# Altium schematic symbol library diodes-inc-pwr-mgmt.SchLib: 25 symbols
Pins are listed as number, name and electrical type; pins without a type are passive.

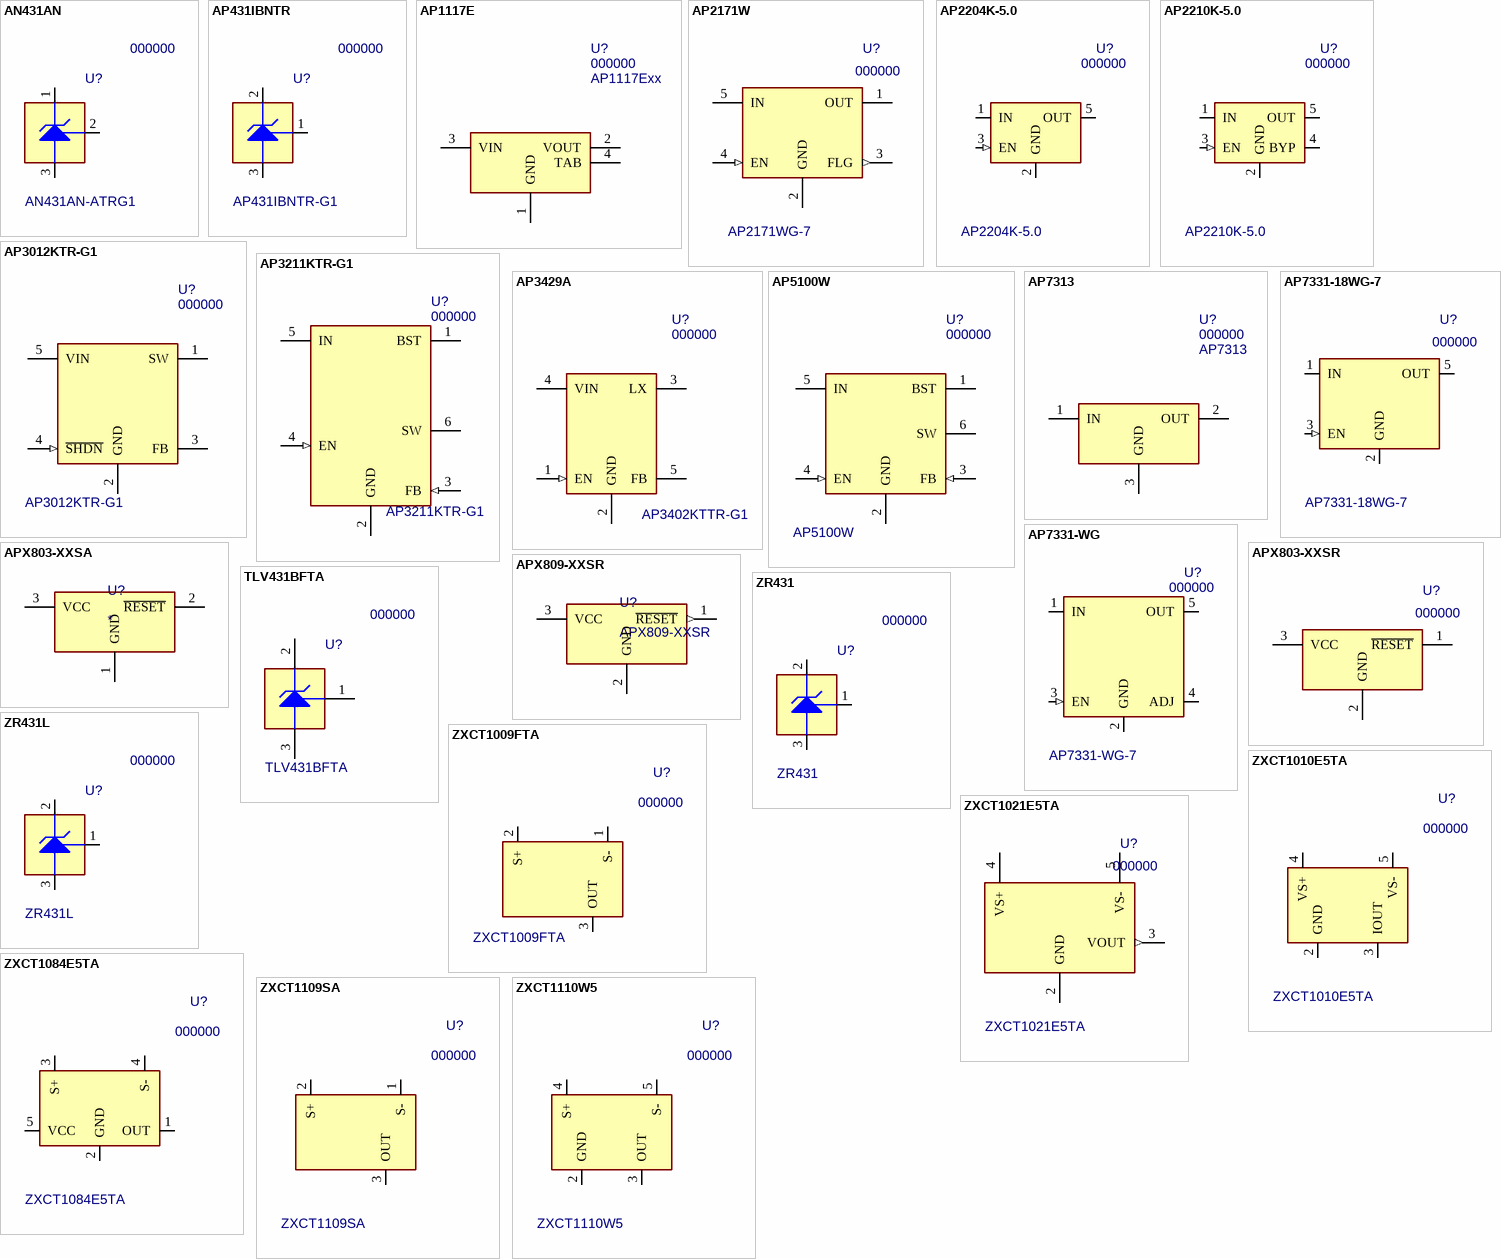
[diagram p0: symbols AN431AN to ZXCT1110W5]

## AN431AN
designator U?, comment 000000  value AN431AN-ATRG1
2.5V Precision Shunt Regulator, 36V, 100mA, 0.5%; MF: Diodes Inc; PN: 000000; Package: SOT23; ExtraInfo: *
footprint SOT-23-M (SOT23, 3-Leads, Body 3.0x2.8mm (max), Pitch 0.95mm, Medium Density)
pins: 1 CATHODE (power), 2 REF, 3 ANODE (power)

## AP431IBNTR
designator U?, comment 000000  value AP431IBNTR-G1
2.5V Precision Shunt Regulator, 36V, 100mA, 1%; MF: Diodes Inc; PN: 000000; Package: SOT23; ExtraInfo: *
footprint SOT-23-M (SOT23, 3-Leads, Body 3.0x2.8mm (max), Pitch 0.95mm, Medium Density)
pins: 1 REF, 2 CATHODE (power), 3 ANODE (power)

## AP1117E
designator U?, comment 000000  value AP1117Exx
1A Low Dropout Positive Regulator; MF: Diodes Inc; PN: 000000; Package: SOT-223; ExtraInfo: *
footprint SOT223-3 (3-Lead Plastic Small Outline Transistor)
pins: 1 GND (power), 2 VOUT (power), 3 VIN (power), 4 TAB (power)

## AP2171W
designator U?, comment 000000  value AP2171WG-7
1A SINGLE CHANNEL CURRENT-LIMITED POWER  SWITCH; MF: Diodes Inc; Package: SOT23-5; PN: 000000; ExtraInfo: *
footprint SOT23-5 (SOT23, 5-Leads, Body 3.0x3.0mm (max), Pitch 0.95mm, IPC High Density)
footprint SOT-25 (5-Lead Plastic Small Outline Transistor - Medium Density)
pins: 1 OUT (power), 2 GND (power), 3 FLG (out), 4 EN (in), 5 IN (power)

## AP2204K-5.0
designator U?, comment 000000  value AP2204K-5.0
LDO 150mA,  5V, 24V Input; MF PN: AP2204K-5.0TRG1; MF: Diodes Inc; Package: SOT23-5; PN: 000000; ExtraInfo: *; Digi-Key PN: AP2204K-5.0TRG1DICT-ND; Price: 0.12359
footprint SOT23-5-M (SOT23, 5-Leads, Body 3.0x3.0mm (max), Pitch 0.95mm, IPC Medium Density)
pins: 1 IN (power), 2 GND (power), 3 EN (in), 5 OUT (power)

## AP2210K-5.0
designator U?, comment 000000  value AP2210K-5.0
LDO 300mA,  5V, 13.2V Input; MF PN: AP2210K-5.0TRG1; MF: Diodes Inc; Package: SOT23-5; PN: 000000; ExtraInfo: *; Digi-Key PN: AP2210K-5.0TRG1DICT-ND; Price: 0.11880
footprint SOT23-5-M (SOT23, 5-Leads, Body 3.0x3.0mm (max), Pitch 0.95mm, IPC Medium Density)
pins: 1 IN (power), 2 GND (power), 3 EN (in), 4 BYP (power), 5 OUT (power)

## AP3012KTR-G1
designator U?, comment 000000  value AP3012KTR-G1
500mA Step-Up DC/DC Cnverter 1.5MHz Switching Frequency; MF: Diodes Inc; PN: 000000; Package: SOT-23-5; ExtraInfo: *
footprint SOT23-5-M (SOT23, 5-Leads, Body 3.0x3.0mm (max), Pitch 0.95mm, IPC Medium Density)
pins: 1 SW (oc), 2 GND (power), 3 FB, 4 ~{SHDN} (in), 5 VIN (power)

## AP3211KTR-G1
designator U?, comment 000000  value AP3211KTR-G1
1.5A Step-Down Converter 1.4MHz Switching  Frequency; MF: Diodes Inc; PN: 000000; Package: SOT-23-6; ExtraInfo: *
footprint SOT23-6-M (SOT23, 6-Leads, Body 3.0x3.0mm (max), Pitch 0.95mm, IPC Medium Density)
pins: 1 BST, 2 GND (power), 3 FB (in), 4 EN (in), 5 IN (power), 6 SW (oc)

## AP3429A
designator U?, comment 000000  value AP3402KTTR-G1
2A Step-Down DC/DC Cnverter 1MHz Switching Frequency; MF: Diodes Inc; PN: 000000; Package: SOT-23-5; ExtraInfo: *; Digi-Key PN: AP3402KTTR-G1DICT-ND; MF PN: AP3402KTTR-G1; Price: 0.12375
footprint SOT23-5-M (SOT23, 5-Leads, Body 3.0x3.0mm (max), Pitch 0.95mm, IPC Medium Density)
pins: 1 EN (in), 2 GND (power), 3 LX (oc), 4 VIN (power), 5 FB

## AP5100W
designator U?, comment 000000  value AP5100W
1.2A Step-Down Converter with 1.4MHz Switching   Frequency; MF: Diodes Inc; PN: 000000; Package: SOT-26; ExtraInfo: *
footprint SOT-26 (6-Lead Plastic Small Outline Transistor)
pins: 1 BST, 2 GND (power), 3 FB (in), 4 EN (in), 5 IN (power), 6 SW (oc)

## AP7313
designator U?, comment 000000  value AP7313
LDO 150mA, Low Quiescent Current, Fast Transient; MF: Diodes Inc; PN: 000000; ExtraInfo: *; Package: *
footprint SOT-23 (SOT23, 3-Leads, Body 3.0x2.8mm (max), Pitch 0.95mm, IPC High Density)
pins: 1 IN (power), 2 OUT (power), 3 GND (power)

## AP7331-18WG-7
designator U?, comment 000000  value AP7331-18WG-7
LDO 300mA,  Low Quiescent Current, Fast Transient; MF: Diodes Inc; Package: SOT23-5; PN: 000000; ExtraInfo: *
footprint SOT23-5 (SOT23, 5-Leads, Body 3.0x3.0mm (max), Pitch 0.95mm, IPC High Density)
footprint SOT-25 (5-Lead Plastic Small Outline Transistor - Medium Density)
pins: 1 IN (power), 2 GND (power), 3 EN (in), 5 OUT (power)

## AP7331-WG
designator U?, comment 000000  value AP7331-WG-7
LDO 300mA,  Low Quiescent Current, Fast Transient; MF: Diodes Inc; Package: SOT23-5; PN: 000000; ExtraInfo: *
footprint SOT23-5 (SOT23, 5-Leads, Body 3.0x3.0mm (max), Pitch 0.95mm, IPC High Density)
footprint SOT-25 (5-Lead Plastic Small Outline Transistor - Medium Density)
pins: 1 IN (power), 2 GND (power), 3 EN (in), 4 ADJ (power), 5 OUT (power)

## APX803-XXSA
designator U?
MICROPROCESSOR RESET CIRCUIT; Value: APX803-XXSA; PN: 000000; MF: Diodes Inc; Package: *; ExtraInfo: *
footprint SOT-23 (SOT23, 3-Leads, Body 3.0x2.8mm (max), Pitch 0.95mm, IPC High Density)
pins: 1 GND (power), 2 ~{RESET} (oc), 3 VCC (power)

## APX803-XXSR
designator U?, comment 000000
MICROPROCESSOR RESET CIRCUIT; Value: APX803-XXSR; MF: Diodes Inc; Package: *; PN: 000000; ExtraInfo: *
footprint SOT-23 (SOT23, 3-Leads, Body 3.0x2.8mm (max), Pitch 0.95mm, IPC High Density)
pins: 1 ~{RESET} (oc), 2 GND (power), 3 VCC (power)

## APX809-XXSR
designator U?
MICROPROCESSOR RESET CIRCUIT; PN: 000000; MF: Diodes Inc; Value: APX809-XXSR; Package: *; ExtraInfo: *
footprint SOT-23 (SOT23, 3-Leads, Body 3.0x2.8mm (max), Pitch 0.95mm, IPC High Density)
pins: 1 ~{RESET} (out), 2 GND (power), 3 VCC (power)

## TLV431BFTA
designator U?, comment 000000  value TLV431BFTA
1.24V SHUNT REGULATOR; MF: Diodes Inc; PN: 000000; Package: SOT23; ExtraInfo: *
footprint SOT-23 (SOT23, 3-Leads, Body 3.0x2.8mm (max), Pitch 0.95mm, IPC High Density)
pins: 1 REF, 2 CATHODE (power), 3 ANODE (power)

## ZR431
designator U?, comment 000000  value ZR431
2.5V Precision Shunt Regulator; MF: Diodes Inc; PN: 000000; Package: SOT23; ExtraInfo: *
footprint SOT-23 (SOT23, 3-Leads, Body 3.0x2.8mm (max), Pitch 0.95mm, IPC High Density)
simulation model ZR431 (Zetex ZR431 Spice Model v1.0 Last revision 31/3/2005)
pins: 1 REF, 2 CATHODE (power), 3 ANODE (power)

## ZR431L
designator U?, comment 000000  value ZR431L
1.24V Precision Shunt Regulator; MF: Diodes Inc; PN: 000000; Package: SOT23; ExtraInfo: *
footprint SOT-23 (SOT23, 3-Leads, Body 3.0x2.8mm (max), Pitch 0.95mm, IPC High Density)
simulation model ZR431L (Zetex ZR431L Spice Model v1.0 Last Revised 21/10/05)
pins: 1 REF, 2 CATHODE (power), 3 ANODE (power)

## ZXCT1009FTA
designator U?, comment 000000  value ZXCT1009FTA
High-side current monitor; MF: Diodes Inc; Package: SOT23; PN: 000000; ExtraInfo: *
footprint SOT-23-M (SOT23, 3-Leads, Body 3.0x2.8mm (max), Pitch 0.95mm, Medium Density)
pins: 1 S-, 2 S+, 3 OUT

## ZXCT1010E5TA
designator U?, comment 000000  value ZXCT1010E5TA
High-side current monitor; MF: Diodes Inc; Package: SOT23-5; PN: 000000; ExtraInfo: *
footprint SOT23-5 (SOT23, 5-Leads, Body 3.0x3.0mm (max), Pitch 0.95mm, IPC High Density)
simulation model ZXCT1010 (TITLE=ZXCT1010 MACROMODEL)
pins: 2 GND (power), 3 IOUT, 4 VS+, 5 VS-

## ZXCT1021E5TA
designator U?, comment 000000  value ZXCT1021E5TA
Low offset high-side current monitor; MF: Diodes Inc; Package: SOT23-5; PN: 000000; ExtraInfo: *
footprint SOT23-5 (SOT23, 5-Leads, Body 3.0x3.0mm (max), Pitch 0.95mm, IPC High Density)
pins: 2 GND (power), 3 VOUT (out), 4 VS+, 5 VS-

## ZXCT1084E5TA
designator U?, comment 000000  value ZXCT1084E5TA
High-side current monitor; MF: Diodes Inc; Package: SOT23-5; PN: 000000; ExtraInfo: *
footprint SOT23-5 (SOT23, 5-Leads, Body 3.0x3.0mm (max), Pitch 0.95mm, IPC High Density)
pins: 1 OUT, 2 GND (power), 3 S+, 4 S-, 5 VCC (power)

## ZXCT1109SA
designator U?, comment 000000  value ZXCT1109SA
High-side current monitor; MF: Diodes Inc; Package: SOT23; PN: 000000; ExtraInfo: *
footprint SOT-23-M (SOT23, 3-Leads, Body 3.0x2.8mm (max), Pitch 0.95mm, Medium Density)
pins: 1 S-, 2 S+, 3 OUT

## ZXCT1110W5
designator U?, comment 000000  value ZXCT1110W5
High-side current monitor; MF: Diodes Inc; Package: SOT23-5; PN: 000000; ExtraInfo: *
footprint SOT23-5 (SOT23, 5-Leads, Body 3.0x3.0mm (max), Pitch 0.95mm, IPC High Density)
simulation model ZXCT1010 (TITLE=ZXCT1010 MACROMODEL)
footprint SOT23-5-M (SOT23, 5-Leads, Body 3.0x3.0mm (max), Pitch 0.95mm, IPC Medium Density)
pins: 2 GND (power), 3 OUT, 4 S+, 5 S-